# Altium schematic symbol library MAX3485ECSA+.SchLib: 1 symbol
Pins are listed as number, name and electrical type; pins without a type are passive.

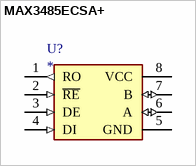
[diagram p0: symbol MAX3485ECSA+]

## MAX3485ECSA+
designator U?
datasheet: https://www.mouser.es/datasheet/2/256/MAX3483E_MAX3491E-1291288.pdf; ComponentLink1Description: mouser; ComponentLink1URL: https://www.mouser.es/ProductDetail/Maxim-Integrated/MAX3485ECSA%2b?qs=1THa7WoU59Ec6gBVCUmv6g%3D%3D
footprint SOIC127P600X175-8N
pins: 1 RO (out), 2 ~{RE} (in), 3 DE (in), 4 DI (in), 5 GND (power), 6 A (io), 7 B (io), 8 VCC (power)